# Altium footprint library PcbLib1.PcbLib: 8 footprints
Each footprint in its own frame and in the unit in brackets; x right, y up, seen from the top. Pads: shape width x height; smd on the part's side, far side on the other; paste and mask are expansions set on the pad; w line width, h text height; cw(c..) or ccw(c..) is an arc to the next point about the centre after c.
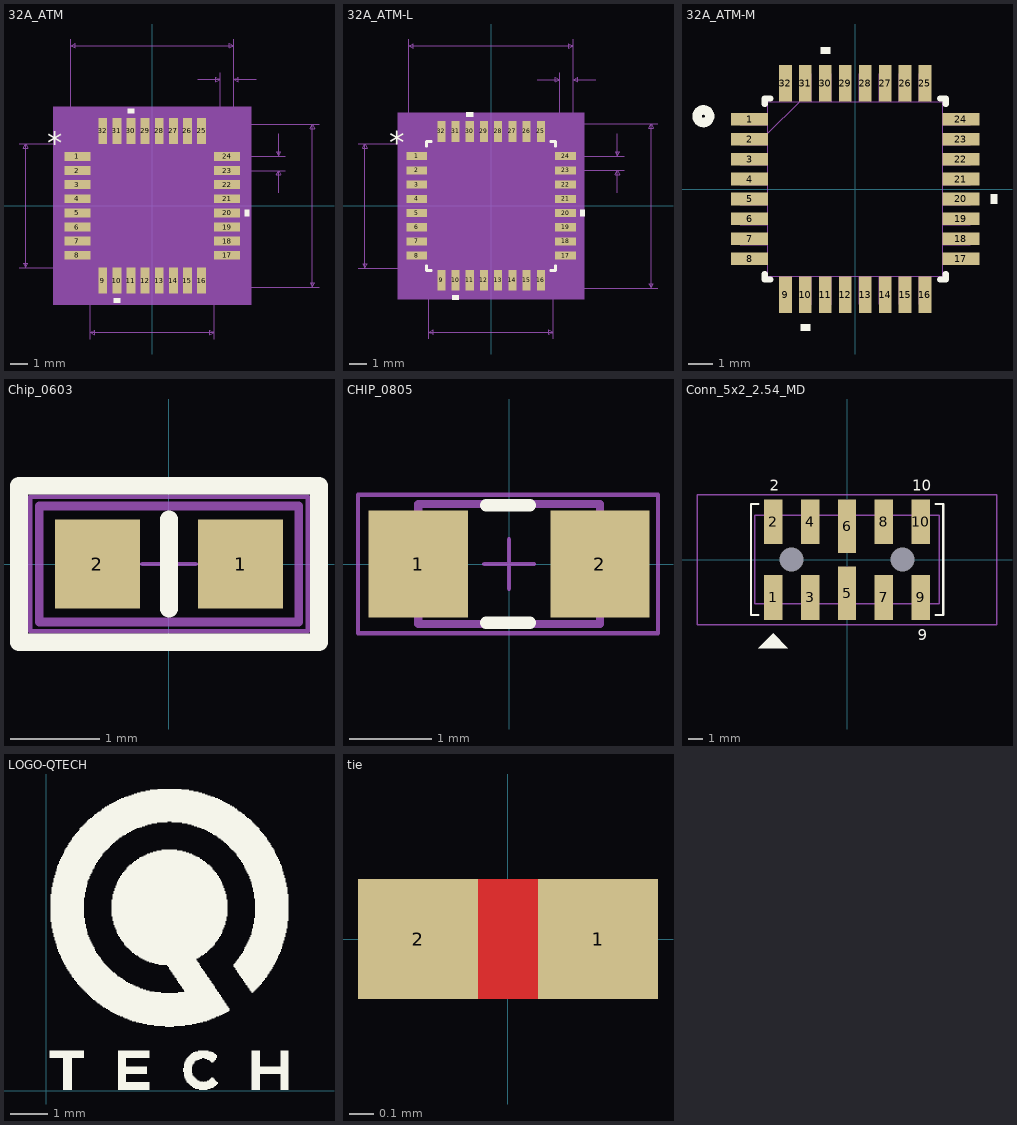
[diagram p0: the footprints below, top view; thin cyan lines are the x and y axes]

## 32A_ATM [mil]
pads (32):
  rect 58x20 smd paste+0 mask+0: 1(-167,110.24) 2(-167,78.74) 3(-167,47.24) 4(-167,15.75) 5(-167,-15.75) 6(-167,-47.24) 7(-167,-78.74) 8(-167,-110.24) 17(167,-110.24) 18(167,-78.74) 19(167,-47.24) 20(167,-15.75) 21(167,15.75) 22(167,47.24) 23(167,78.74) 24(167,110.24)
  rect 20x58 smd paste+0 mask+0: 9(-110.24,-167) 10(-78.74,-167) 11(-47.24,-167) 12(-15.75,-167) 13(15.75,-167) 14(47.24,-167) 15(78.74,-167) 16(110.24,-167) 25(110.24,167) 26(78.74,167) 27(47.24,167) 28(15.75,167) 29(-15.75,167) 30(-47.24,167) 31(-78.74,167) 32(-110.24,167)
Top Overlay:
  region: -39.74,206 -54.74,206 -54.74,216 -39.74,216
  region: 206,-8.25 216,-8.25 216,-23.25 206,-23.25
  region: -71.24,-206 -86.24,-206 -86.24,-216 -71.24,-216
  text "*" at -233.5,115.98 h50
Mechanical 5:
  region: 221,-221 -221,-221 -221,221 221,221
Mechanical 7:
  lines w1: -297,-138 -110.24,-138 ; -297,138 -110.24,138 ; -182,110.24 -182,372 ; -138,-297 -138,-110.24 ; 102,282 152,282 ; 110.24,-182 372,-182 ; 110.24,182 372,182 ; 138,-297 138,-110.24 ; 152,110.24 152,297 ; 167,78.74 297,78.74 ; 167,110.24 297,110.24 ; 182,297 182,110.24 182,372 ; 232,282 182,282 ; 282,28.74 282,78.74 ; 282,160.24 282,110.24 ; -282,-138 -277,-128 -287,-128 -282,-138 ; -282,-138 -282,138 ; -282,138 -277,128 -287,128 -282,138 ; -182,357 -172,352 -172,362 -182,357 ; -182,357 182,357 ; -138,-282 -128,-287 -128,-277 -138,-282 ; -138,-282 138,-282 ; 138,-282 128,-287 128,-277 138,-282 ; 152,282 142,277 142,287 152,282 ; 182,282 192,277 192,287 182,282 ; 182,357 172,352 172,362 182,357 ; 282,78.74 287,68.74 277,68.74 282,78.74 ; 282,110.24 287,120.24 277,120.24 282,110.24 ; 357,-182 362,-172 352,-172 357,-182 ; 357,-182 357,182 ; 357,182 362,172 352,172 357,182
  text "0.276in/7.01mm" at -477,-12.5 h25
  text "0.276in/7.01mm" at -87.5,-327 h25
  text "0.364in/9.246mm" at 377,-12.5 h25
  text "0.364in/9.246mm" at -93.75,377 h25
  text "0.03in/0.762mm" at 79.5,302 h25
  text "0.031in/0.8mm" at 302,81.99 h25
  text "Default Vert Padstyle: RX20Y58D0T" at -412.5,-507 h50
  text "Default Horiz Padstyle: RX20Y58D0T" at -425,-457 h50
Mechanical 13:
  lines w1: -138,88 -88,138 ; -182,-119.24 -138,-119.24 -138,-101.24 -182,-101.24 -182,-119.24 ; -182,-87.74 -138,-87.74 -138,-69.74 -182,-69.74 -182,-87.74 ; -182,-56.24 -138,-56.24 -138,-38.24 -182,-38.24 -182,-56.24 ; -182,-24.75 -138,-24.75 -138,-6.75 -182,-6.75 -182,-24.75 ; -182,6.75 -138,6.75 -138,24.75 -182,24.75 -182,6.75 ; -182,38.24 -138,38.24 -138,56.24 -182,56.24 -182,38.24 ; -182,69.74 -138,69.74 -138,87.74 -182,87.74 -182,69.74 ; -182,101.24 -138,101.24 -138,119.24 -182,119.24 -182,101.24 ; -138,-138 -138,138 138,138 138,-138 -138,-138 ; -119.24,-182 -101.24,-182 -101.24,-138 -119.24,-138 -119.24,-182 ; -119.24,138 -119.24,182 -101.24,182 -101.24,138 -119.24,138 ; -87.74,-182 -69.74,-182 -69.74,-138 -87.74,-138 -87.74,-182 ; -87.74,138 -87.74,182 -69.74,182 -69.74,138 -87.74,138 ; -56.24,-182 -38.24,-182 -38.24,-138 -56.24,-138 -56.24,-182 ; -56.24,138 -56.24,182 -38.24,182 -38.24,138 -56.24,138 ; -24.75,-182 -6.75,-182 -6.75,-138 -24.75,-138 -24.75,-182 ; -24.75,138 -24.75,182 -6.75,182 -6.75,138 -24.75,138 ; 6.75,-182 24.75,-182 24.75,-138 6.75,-138 6.75,-182 ; 6.75,138 6.75,182 24.75,182 24.75,138 6.75,138 ; 38.24,-182 56.24,-182 56.24,-138 38.24,-138 38.24,-182 ; 38.24,138 38.24,182 56.24,182 56.24,138 38.24,138 ; 69.74,-182 87.74,-182 87.74,-138 69.74,-138 69.74,-182 ; 69.74,138 69.74,182 87.74,182 87.74,138 69.74,138 ; 101.24,-182 119.24,-182 119.24,-138 101.24,-138 101.24,-182 ; 101.24,138 101.24,182 119.24,182 119.24,138 101.24,138 ; 138,-119.24 182,-119.24 182,-101.24 138,-101.24 138,-119.24 ; 138,-87.74 182,-87.74 182,-69.74 138,-69.74 138,-87.74 ; 138,-56.24 182,-56.24 182,-38.24 138,-38.24 138,-56.24 ; 138,-24.75 182,-24.75 182,-6.75 138,-6.75 138,-24.75 ; 138,6.75 182,6.75 182,24.75 138,24.75 138,6.75 ; 138,38.24 182,38.24 182,56.24 138,56.24 138,38.24 ; 138,69.74 182,69.74 182,87.74 138,87.74 138,69.74 ; 138,101.24 182,101.24 182,119.24 138,119.24 138,101.24
  text "*" at -130.5,85.98 h50
Mechanical 15:
  region: -130.24,-148 -148,-148 -148,-130.24 -206,-130.24 -206,130.24 -148,130.24 -148,148 -130.24,148 -130.24,206 130.24,206 130.24,148 148,148 148,130.24 206,130.24 206,-130.24 148,-130.24 148,-148 130.24,-148 130.24,-206 -130.24,-206
  lines w6: -206,-130.24 -206,130.24 -148,130.24 -148,148 -130.24,148 -130.24,206 130.24,206 130.24,148 148,148 148,130.24 206,130.24 206,-130.24 148,-130.24 148,-148 130.24,-148 130.24,-206 -130.24,-206 -130.24,-148 -148,-148 -148,-130.24 -206,-130.24
3D body: height 10, standoff 0, extent 0,0 10,10

## 32A_ATM-L [mil]
pads (32):
  rect 46x18 smd: 1(-165,110.24) 2(-165,78.74) 3(-165,47.24) 4(-165,15.75) 5(-165,-15.75) 6(-165,-47.24) 7(-165,-78.74) 8(-165,-110.24) 17(165,-110.24) 18(165,-78.74) 19(165,-47.24) 20(165,-15.75) 21(165,15.75) 22(165,47.24) 23(165,78.74) 24(165,110.24)
  rect 18x46 smd: 9(-110.24,-165) 10(-78.74,-165) 11(-47.24,-165) 12(-15.75,-165) 13(15.75,-165) 14(47.24,-165) 15(78.74,-165) 16(110.24,-165) 25(110.24,165) 26(78.74,165) 27(47.24,165) 28(15.75,165) 29(-15.75,165) 30(-47.24,165) 31(-78.74,165) 32(-110.24,165)
Top Overlay:
  region: -71.24,-198 -86.24,-198 -86.24,-208 -71.24,-208
  region: 198,-8.25 208,-8.25 208,-23.25 198,-23.25
  region: -39.74,198 -54.74,198 -54.74,208 -39.74,208
  lines w6: -143,-132.34 -143,-143 -132.34,-143 ; -143,132.34 -143,143 -132.34,143 ; 132.34,-143 143,-143 143,-132.34 ; 132.34,143 143,143 143,132.34
  text "*" at -225.5,115.98 h50
Mechanical 5:
  region: 207,-207 -207,-207 -207,207 207,207
Mechanical 7:
  lines w1: -295,-138 -110.24,-138 ; -295,138 -110.24,138 ; -182,110.24 -182,370 ; -138,-295 -138,-110.24 ; 102,280 152,280 ; 110.24,-182 370,-182 ; 110.24,182 370,182 ; 138,-295 138,-110.24 ; 152,110.24 152,295 ; 165,78.74 295,78.74 ; 165,110.24 295,110.24 ; 182,295 182,110.24 182,370 ; 232,280 182,280 ; 280,28.74 280,78.74 ; 280,160.24 280,110.24 ; -280,-138 -280,138 ; -280,-138 -285,-128 -275,-128 -280,-138 ; -280,138 -285,128 -275,128 -280,138 ; -182,355 182,355 ; -182,355 -172,360 -172,350 -182,355 ; -138,-280 138,-280 ; -138,-280 -128,-275 -128,-285 -138,-280 ; 138,-280 128,-275 128,-285 138,-280 ; 152,280 142,285 142,275 152,280 ; 182,280 192,285 192,275 182,280 ; 182,355 172,360 172,350 182,355 ; 280,78.74 275,68.74 285,68.74 280,78.74 ; 280,110.24 275,120.24 285,120.24 280,110.24 ; 355,-182 355,182 ; 355,-182 350,-172 360,-172 355,-182 ; 355,182 350,172 360,172 355,182
  text "Default Horiz Padstyle: RX18Y46D0T" at -425,-455 h50
  text "Default Vert Padstyle: RX18Y46D0T" at -412.5,-505 h50
  text "0.031in/0.8mm" at 300,81.99 h25
  text "0.03in/0.762mm" at 79.5,300 h25
  text "0.364in/9.246mm" at -93.75,375 h25
  text "0.364in/9.246mm" at 375,-12.5 h25
  text "0.276in/7.01mm" at -87.5,-325 h25
  text "0.276in/7.01mm" at -475,-12.5 h25
Mechanical 13:
  lines w1: -138,88 -88,138 ; -182,-119.24 -182,-101.24 -138,-101.24 -138,-119.24 -182,-119.24 ; -182,-87.74 -182,-69.74 -138,-69.74 -138,-87.74 -182,-87.74 ; -182,-56.24 -182,-38.24 -138,-38.24 -138,-56.24 -182,-56.24 ; -182,-24.75 -182,-6.75 -138,-6.75 -138,-24.75 -182,-24.75 ; -182,6.75 -182,24.75 -138,24.75 -138,6.75 -182,6.75 ; -182,38.24 -182,56.24 -138,56.24 -138,38.24 -182,38.24 ; -182,69.74 -182,87.74 -138,87.74 -138,69.74 -182,69.74 ; -182,101.24 -182,119.24 -138,119.24 -138,101.24 -182,101.24 ; -138,-138 138,-138 138,138 -138,138 -138,-138 ; -119.24,-182 -119.24,-138 -101.24,-138 -101.24,-182 -119.24,-182 ; -119.24,138 -101.24,138 -101.24,182 -119.24,182 -119.24,138 ; -87.74,-182 -87.74,-138 -69.74,-138 -69.74,-182 -87.74,-182 ; -87.74,138 -69.74,138 -69.74,182 -87.74,182 -87.74,138 ; -56.24,-182 -56.24,-138 -38.24,-138 -38.24,-182 -56.24,-182 ; -56.24,138 -38.24,138 -38.24,182 -56.24,182 -56.24,138 ; -24.75,-182 -24.75,-138 -6.75,-138 -6.75,-182 -24.75,-182 ; -24.75,138 -6.75,138 -6.75,182 -24.75,182 -24.75,138 ; 6.75,-182 6.75,-138 24.75,-138 24.75,-182 6.75,-182 ; 6.75,138 24.75,138 24.75,182 6.75,182 6.75,138 ; 38.24,-182 38.24,-138 56.24,-138 56.24,-182 38.24,-182 ; 38.24,138 56.24,138 56.24,182 38.24,182 38.24,138 ; 69.74,-182 69.74,-138 87.74,-138 87.74,-182 69.74,-182 ; 69.74,138 87.74,138 87.74,182 69.74,182 69.74,138 ; 101.24,-182 101.24,-138 119.24,-138 119.24,-182 101.24,-182 ; 101.24,138 119.24,138 119.24,182 101.24,182 101.24,138 ; 138,-119.24 138,-101.24 182,-101.24 182,-119.24 138,-119.24 ; 138,-87.74 138,-69.74 182,-69.74 182,-87.74 138,-87.74 ; 138,-56.24 138,-38.24 182,-38.24 182,-56.24 138,-56.24 ; 138,-24.75 138,-6.75 182,-6.75 182,-24.75 138,-24.75 ; 138,6.75 138,24.75 182,24.75 182,6.75 138,6.75 ; 138,38.24 138,56.24 182,56.24 182,38.24 138,38.24 ; 138,69.74 138,87.74 182,87.74 182,69.74 138,69.74 ; 138,101.24 138,119.24 182,119.24 182,101.24 138,101.24
  text "*" at -134.5,85.98 h50
Mechanical 15:
  region: -118.24,-142 -142,-142 -142,-118.24 -192,-118.24 -192,118.24 -142,118.24 -142,142 -118.24,142 -118.24,192 118.24,192 118.24,142 142,142 142,118.24 192,118.24 192,-118.24 142,-118.24 142,-142 118.24,-142 118.24,-192 -118.24,-192
  lines w6: -192,-118.24 -142,-118.24 -142,-142 -118.24,-142 -118.24,-192 118.24,-192 118.24,-142 142,-142 142,-118.24 192,-118.24 192,118.24 142,118.24 142,142 118.24,142 118.24,192 -118.24,192 -118.24,142 -142,142 -142,118.24 -192,118.24 -192,-118.24
3D body: height 10, standoff 0, extent 0,0 10,10

## 32A_ATM-M [mil]
pads (32):
  rect 58x20 smd paste+0 mask+5: 1(-167,110.24) 2(-167,78.74) 3(-167,47.24) 4(-167,15.75) 5(-167,-15.75) 6(-167,-47.24) 7(-167,-78.74) 8(-167,-110.24) 17(167,-110.24) 18(167,-78.74) 19(167,-47.24) 20(167,-15.75) 21(167,15.75) 22(167,47.24) 23(167,78.74) 24(167,110.24)
  rect 20x58 smd paste+0 mask+5: 9(-110.24,-167) 10(-78.74,-167) 11(-47.24,-167) 12(-15.75,-167) 13(15.75,-167) 14(47.24,-167) 15(78.74,-167) 16(110.24,-167) 25(110.24,167) 26(78.74,167) 27(47.24,167) 28(15.75,167) 29(-15.75,167) 30(-47.24,167) 31(-78.74,167) 32(-110.24,167)
Top Overlay:
  circle w15: c-240,115 r10
  region: -39.74,214 -54.74,214 -54.74,224 -39.74,224
  region: 214,-8.25 224,-8.25 224,-23.25 214,-23.25
  region: -71.24,-214 -86.24,-214 -86.24,-224 -71.24,-224
  lines w10: -143,-134.34 -143,-143 -134.34,-143 ; -143,134.34 -143,143 -134.34,143 ; 134.34,-143 143,-143 143,-134.34 ; 134.34,143 143,143 143,134.34
Mechanical 15:
  lines w1.97: -138,88 -88,138 ; -182,-119.24 -182,-101.24 -138,-101.24 -138,-119.24 -182,-119.24 ; -182,-87.74 -182,-69.74 -138,-69.74 -138,-87.74 -182,-87.74 ; -182,-56.24 -182,-38.24 -138,-38.24 -138,-56.24 -182,-56.24 ; -182,-24.75 -182,-6.75 -138,-6.75 -138,-24.75 -182,-24.75 ; -182,6.75 -182,24.75 -138,24.75 -138,6.75 -182,6.75 ; -182,38.24 -182,56.24 -138,56.24 -138,38.24 -182,38.24 ; -182,69.74 -182,87.74 -138,87.74 -138,69.74 -182,69.74 ; -182,101.24 -182,119.24 -138,119.24 -138,101.24 -182,101.24 ; -138,-138 -138,138 138,138 138,-138 -138,-138 ; -119.24,-182 -101.24,-182 -101.24,-138 -119.24,-138 -119.24,-182 ; -119.24,138 -101.24,138 -101.24,182 -119.24,182 -119.24,138 ; -87.74,-182 -87.74,-138 -69.74,-138 -69.74,-182 -87.74,-182 ; -87.74,138 -87.74,182 -69.74,182 -69.74,138 -87.74,138 ; -56.24,-182 -38.24,-182 -38.24,-138 -56.24,-138 -56.24,-182 ; -56.24,138 -38.24,138 -38.24,182 -56.24,182 -56.24,138 ; -24.75,-182 -6.75,-182 -6.75,-138 -24.75,-138 -24.75,-182 ; -24.75,138 -6.75,138 -6.75,182 -24.75,182 -24.75,138 ; 6.75,-182 24.75,-182 24.75,-138 6.75,-138 6.75,-182 ; 6.75,138 24.75,138 24.75,182 6.75,182 6.75,138 ; 38.24,-182 56.24,-182 56.24,-138 38.24,-138 38.24,-182 ; 38.24,138 56.24,138 56.24,182 38.24,182 38.24,138 ; 69.74,-182 69.74,-138 87.74,-138 87.74,-182 69.74,-182 ; 69.74,138 69.74,182 87.74,182 87.74,138 69.74,138 ; 101.24,-182 119.24,-182 119.24,-138 101.24,-138 101.24,-182 ; 101.24,138 119.24,138 119.24,182 101.24,182 101.24,138 ; 138,-119.24 138,-101.24 182,-101.24 182,-119.24 138,-119.24 ; 138,-87.74 138,-69.74 182,-69.74 182,-87.74 138,-87.74 ; 138,-56.24 138,-38.24 182,-38.24 182,-56.24 138,-56.24 ; 138,-24.75 138,-6.75 182,-6.75 182,-24.75 138,-24.75 ; 138,6.75 138,24.75 182,24.75 182,6.75 138,6.75 ; 138,38.24 138,56.24 182,56.24 182,38.24 138,38.24 ; 138,69.74 138,87.74 182,87.74 182,69.74 138,69.74 ; 138,101.24 138,119.24 182,119.24 182,101.24 138,101.24
3D body: height 10, standoff 0, extent 0,0 10,10
3D body "32A_ATM.step": height 47.09, standoff 0, extent -182,-182 182.01,182.01

## Chip_0603 [mm]
height 0.55
pads (2):
  rect 0.95x1 smd: 1(0.8,0) 2(-0.8,0)
Top Overlay:
  lines w0.2: 0,-0.5 0,0.5 ; -1.676,-0.875 -1.676,0.875 1.676,0.875 1.676,-0.875 -1.676,-0.875
Mechanical 9:
  lines w0.1: -1.45,-0.65 -1.45,0.65 1.45,0.65 1.45,-0.65 -1.45,-0.65
Mechanical 15:
  lines w0.05: -0.3,0 0.3,0 ; 0,-0.3 0,0.3 ; -1.55,-0.75 -1.55,0.75 1.55,0.75 1.55,-0.75 -1.55,-0.75
3D body "INDC1608X95.STEP": height 0.95, standoff 0, extent -0.8,-0.4 0.8,0.4

## CHIP_0805 [mm]
height 1.45
pads (2):
  rect 1.2x1.3 smd mask+0.064: 1(-1.1,0) 2(1.1,0)
Top Overlay:
  lines w0.15: -0.279,-0.711 0.254,-0.711 ; -0.279,0.711 0.254,0.711
Mechanical 9:
  lines w0.1: -1.1,-0.725 -1.1,0.725 1.1,0.725 1.1,-0.725 -1.1,-0.725
Mechanical 15:
  lines w0.05: -0.3,0 0.3,0 ; 0,-0.3 0,0.3 ; -1.829,-0.838 -1.829,0.838 1.803,0.838 1.803,-0.838 -1.829,-0.838
3D body "CAPC_0805.STEP": height 0.88, standoff 0, extent -1,-0.625 1,0.625

## Conn_5x2_2.54_MD [mm] "Connector SMD 10 pin (5x2) pitch 2,54 mm"
height 13.2
pads (12):
  rect 1.27x3.08 smd paste-0.05 mask+0.1: 1(-5.08,-2.6) 2(-5.08,2.6) 3(-2.54,-2.6) 4(-2.54,2.6) 7(2.54,-2.6) 8(2.54,2.6) 9(5.08,-2.6) 10(5.08,2.6)
  rect 1.27x3.68 smd paste-0.05 mask+0.1: 5(0,-2.3) 6(0,2.3)
  round 0 hole 1.65 unplated: ""(-3.81,0) ""(3.81,0)
Top Overlay:
  region: -5.08,-5.08 -6.096,-6.096 -4.064,-6.096
  lines w0.152: -6.096,-3.81 -6.604,-3.81 -6.604,3.81 -6.096,3.81 ; 6.106,-3.808 6.614,-3.808 6.614,3.812 6.106,3.812
  text "10" at 4.47,4.724 h0.76
  text "2" at -5.309,4.724 h0.76
  text "9" at 4.851,-5.563 h0.76
Mechanical 9:
  lines w0.1: -10.31,-4.47 10.31,-4.47 10.31,4.47 -10.31,4.47 -10.31,-4.47 ; -6.35,-3.05 6.35,-3.05 6.35,3.05 -6.35,3.05 -6.35,-3.05
  text "1" at -5.234,-2.44 h1
  text "2" at -5.488,1.624 h1
  text "9" at 4.799,-2.44 h1
  text "10" at 4.418,1.624 h1
3D body "User Library-Molex - 15-91-0100 (Pin Header 2_54mm 10 Pin).step": height 9.67, standoff 0.01, extent -6.35,-3.5 6.35,3.5

## LOGO-QTECH [mil]
Top Overlay:
  drawing of 802 lines, arcs and shapes, not listed

## tie [mm]
pads (2):
  rect 0.5x0.5 smd paste-1 mask+0.102: 1(0.375,0) 2(-0.375,0)
Top Layer:
  rectangle: -0.625,-0.25 0.625,0.25